# Altium footprint library 691216710003.PcbLib: 1 footprints
Each footprint in its own frame and in the unit in brackets; x right, y up, seen from the top. Pads: shape width x height; smd on the part's side, far side on the other; paste and mask are expansions set on the pad; w line width, h text height; cw(c..) or ccw(c..) is an arc to the next point about the centre after c.
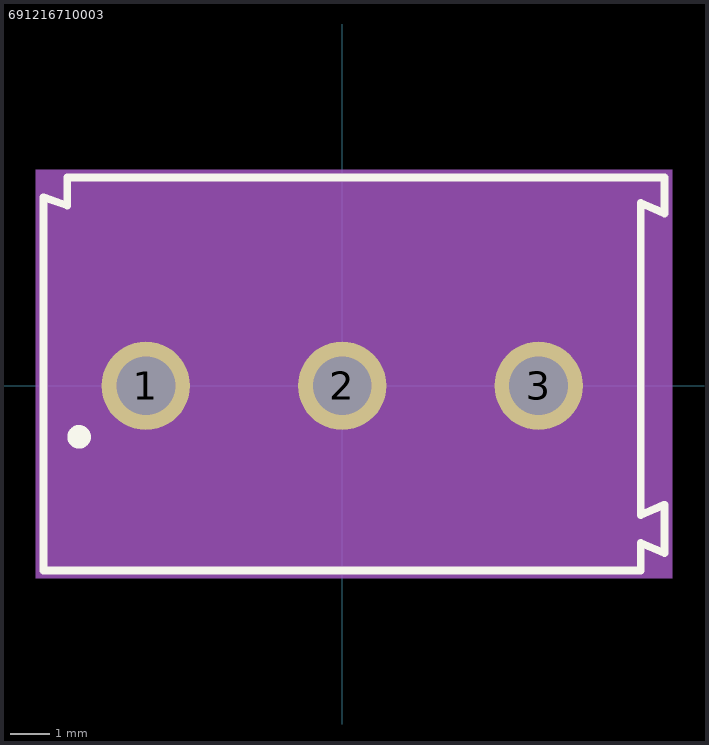
[diagram p0: the footprint, top view; thin cyan lines are the x and y axes]

## 691216710003 [mm]
pads (3):
  round 2.25 hole 1.5: 1(-5,0) 2(0,0) 3(5,0)
Top Overlay:
  circle w0.4: c-6.7,-1.3 r0.1
  lines w0.2: -7.6,-4.7 7.6,-4.7 7.6,-4 8.2,-4.26 8.2,-3.03 7.6,-3.29 7.6,4.65 8.2,4.39 8.2,5.3 -7,5.3 -7,4.59 -7.6,4.8 -7.6,-4.7
Assembly Top:
  lines w0.1: -7.5,-4.6 7.5,-4.6 7.5,-3.9 8.1,-4.16 8.1,-3.13 7.5,-3.39 7.5,4.75 8.1,4.49 8.1,5.2 -6.9,5.2 -6.9,4.49 -7.5,4.7 -7.5,-4.6
Courtyard Top:
  region: 8.4,-4.9 -7.8,-4.9 -7.8,5.5 8.4,5.5
3D body "step_temp.STEP": height 13.8, standoff -3.5, extent -7.546,-4.572 8.054,5.228